# EAGLE library part SIM7600 (library Public)
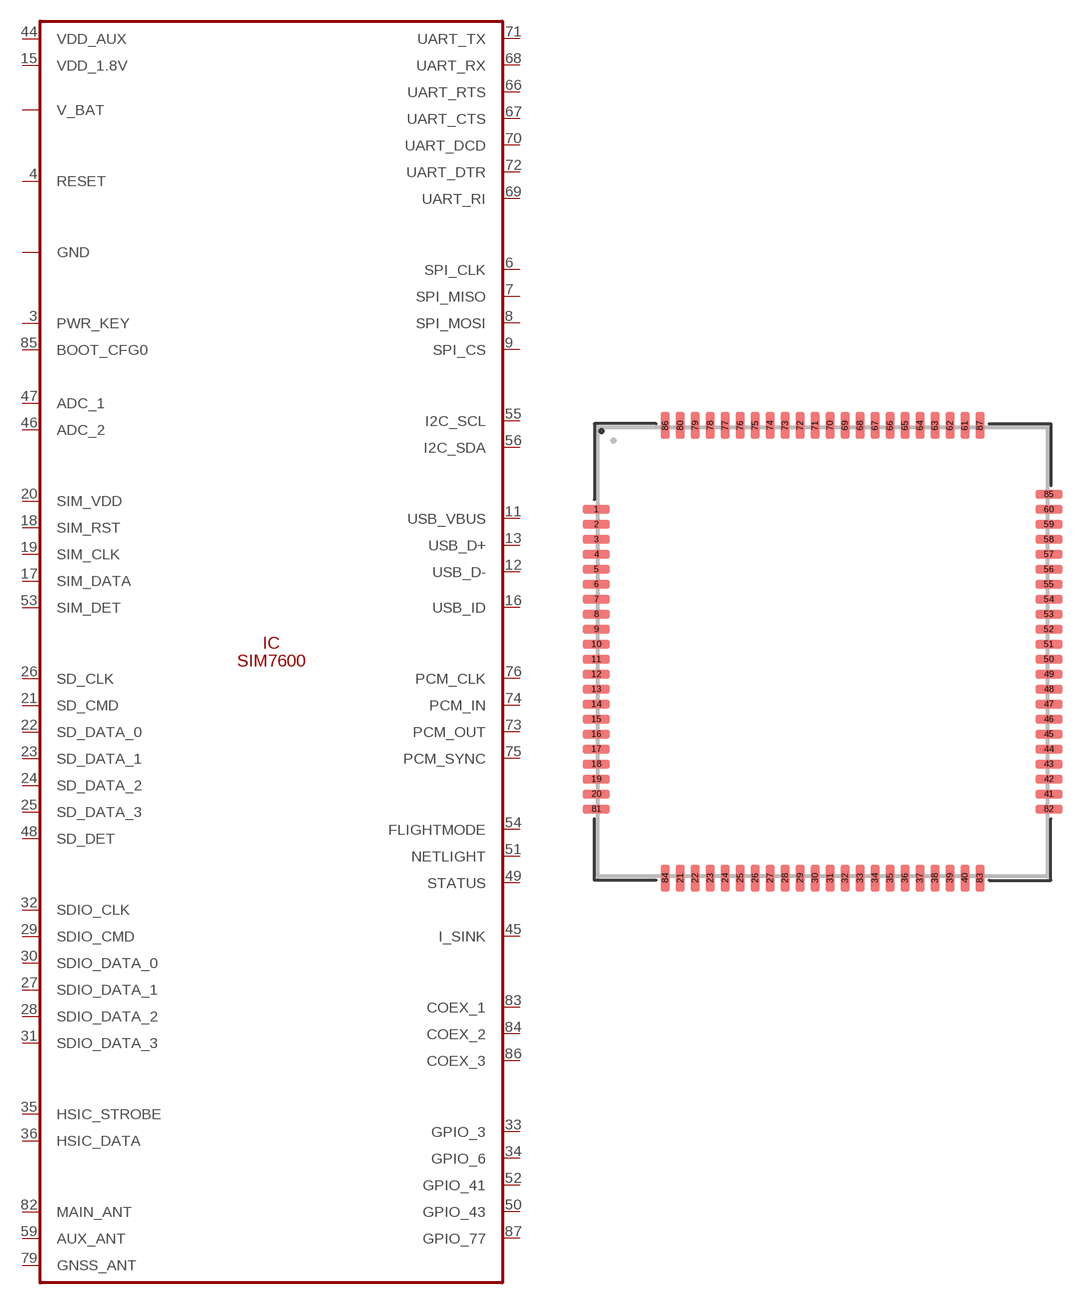
[diagram p103: symbol with the pads of SIM7600; footprint SIM7600]

Designator prefix IC

## SIM7600  [SIM7600]
1  GND
2  GND
3  PWR_KEY
4  RESET
5  GND
6  SPI_CLK
7  SPI_MISO
8  SPI_MOSI
9  SPI_CS
10  GND
11  USB_VBUS
12  USB_D-
13  USB_D+
14  GND
15  VDD_1.8V
16  USB_ID
17  SIM_DATA
18  SIM_RST
19  SIM_CLK
20  SIM_VDD
21  SD_CMD
22  SD_DATA_0
23  SD_DATA_1
24  SD_DATA_2
25  SD_DATA_3
26  SD_CLK
27  SDIO_DATA_1
28  SDIO_DATA_2
29  SDIO_CMD
30  SDIO_DATA_0
31  SDIO_DATA_3
32  SDIO_CLK
33  GPIO_3
34  GPIO_6
35  HSIC_STROBE
36  HSIC_DATA
37  GND
38  V_BAT
39  V_BAT
40  GND
41  GND
43  GND
44  VDD_AUX
45  I_SINK
46  ADC_2
47  ADC_1
48  SD_DET
49  STATUS
50  GPIO_43
51  NETLIGHT
52  GPIO_41
53  SIM_DET
54  FLIGHTMODE
55  I2C_SCL
56  I2C_SDA
57  GND
58  GND
59  AUX_ANT
60  GND
61  GND
62  V_BAT
63  V_BAT
64  GND
65  GND
66  UART_RTS
67  UART_CTS
68  UART_RX
69  UART_RI
70  UART_DCD
71  UART_TX
72  UART_DTR
73  PCM_OUT
74  PCM_IN
75  PCM_SYNC
76  PCM_CLK
77  GND
78  GND
79  GNSS_ANT
80  GND
81  GND
82  MAIN_ANT
83  COEX_1
84  COEX_2
85  BOOT_CFG0
86  COEX_3
87  GPIO_77

## Footprint SIM7600 (pad centres in mm)
smd 1.8 x 0.6: 1 -15.1,10; 2 -15.1,9; 3 -15.1,8; 4 -15.1,7; 5 -15.1,6; 6 -15.1,5; 7 -15.1,4; 8 -15.1,3; 9 -15.1,2; 10 -15.1,1; 11 -15.1,0; 12 -15.1,-1; 13 -15.1,-2; 14 -15.1,-3; 15 -15.1,-4; 16 -15.1,-5; 17 -15.1,-6; 18 -15.1,-7; 19 -15.1,-8; 20 -15.1,-9; 41 15.1,-9; 42 15.1,-8; 43 15.1,-7; 44 15.1,-6; 45 15.1,-5; 46 15.1,-4; 47 15.1,-3; 48 15.1,-2; 49 15.1,-1; 50 15.1,0; 51 15.1,1; 52 15.1,2; 53 15.1,3; 54 15.1,4; 55 15.1,5; 56 15.1,6; 57 15.1,7; 58 15.1,8; 59 15.1,9; 60 15.1,10; 81 -15.1,-10; 82 15.1,-10; 85 15.1,11
smd 0.6 x 1.8: 21 -9.5,-14.6; 22 -8.5,-14.6; 23 -7.5,-14.6; 24 -6.5,-14.6; 25 -5.5,-14.6; 26 -4.5,-14.6; 27 -3.5,-14.6; 28 -2.5,-14.6; 29 -1.5,-14.6; 30 -0.5,-14.6; 31 0.5,-14.6; 32 1.5,-14.6; 33 2.5,-14.6; 34 3.5,-14.6; 35 4.5,-14.6; 36 5.5,-14.6; 37 6.5,-14.6; 38 7.5,-14.6; 39 8.5,-14.6; 40 9.5,-14.6; 61 9.5,15.6; 62 8.5,15.6; 63 7.5,15.6; 64 6.5,15.6; 65 5.5,15.6; 66 4.5,15.6; 67 3.5,15.6; 68 2.5,15.6; 69 1.5,15.6; 70 0.5,15.6; 71 -0.5,15.6; 72 -1.5,15.6; 73 -2.5,15.6; 74 -3.5,15.6; 75 -4.5,15.6; 76 -5.5,15.6; 77 -6.5,15.6; 78 -7.5,15.6; 79 -8.5,15.6; 80 -9.5,15.6; 83 10.5,-14.6; 84 -10.5,-14.6; 86 -10.5,15.6; 87 10.5,15.6